# EAGLE library part SMI-2P (library songle)
Songle relay (SMI-2P) Source: http://www.songlerelay.com/Public/Uploads/20190921/5d8598d95868d.pdf
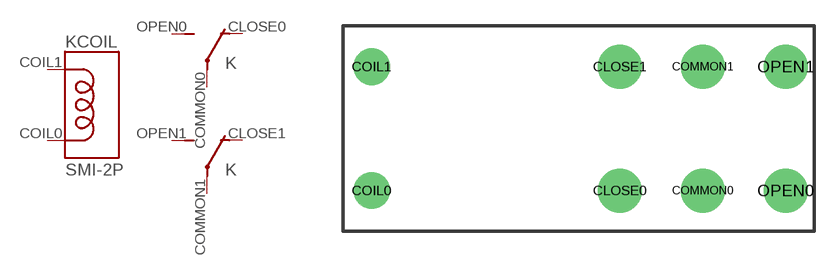
[diagram p0: symbol with the pads of SMI; footprint SMI]

Designator prefix K; gates COIL=K SWITCH0=U SWITCH1=U

## SMI-2P  [SMI]
CLOSE0  SWITCH0:CLOSE  pas
CLOSE1  SWITCH1:CLOSE  pas
COIL0  COIL:0  pas
COIL1  COIL:1  pas
COMMON0  SWITCH0:COMMON  pas
COMMON1  SWITCH1:COMMON  pas
OPEN0  SWITCH0:OPEN  pas
OPEN1  SWITCH1:OPEN  pas

## Footprint SMI (pad centres in mm)
drill 1.8: CLOSE0 2.54,-3.8; CLOSE1 2.54,3.8; COMMON0 7.62,-3.8; COMMON1 7.62,3.8; OPEN0 12.7,-3.8; OPEN1 12.7,3.8
drill 1.5: COIL0 -12.7,-3.8; COIL1 -12.7,3.8